# EAGLE library part LM75 (library joakim)
LM75A Temperature sensor
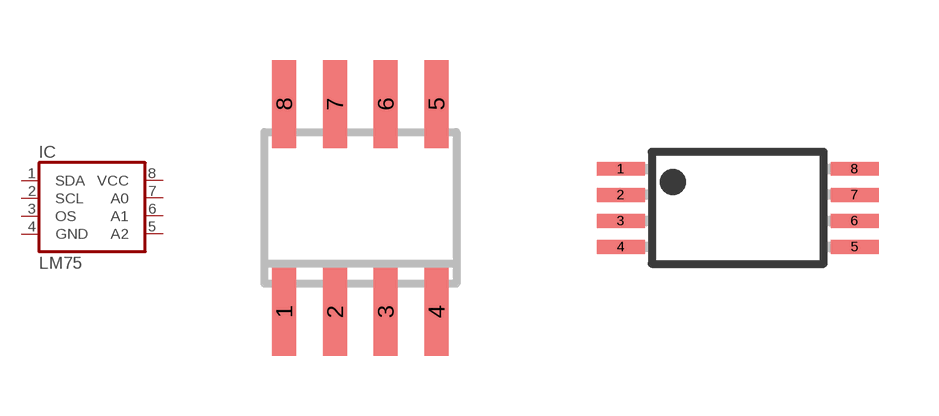
[diagram p79: symbol with the pads of SO08J; footprints SO08J, TSSOP8J]

Designator prefix IC

## LM75D  [SO08J]
1  SDA
2  SCL
3  OS
4  GND  pwr
5  A2
6  A1
7  A0
8  VCC  pwr

## LM75P  [TSSOP8J]
Pads as for SO08J

## Footprint SO08J (pad centres in mm)
Small Outline Package 8 NS Package M08A
smd 0.6 x 2.2: 1 -1.905,-2.6; 2 -0.635,-2.6; 3 0.635,-2.6; 4 1.905,-2.6; 5 1.905,2.6; 6 0.635,2.6; 7 -0.635,2.6; 8 -1.905,2.6

## Footprint TSSOP8J (pad centres in mm)
Plastic Small Outline
smd 1.2 x 0.35: 1 -2.925,0.975; 2 -2.925,0.325; 3 -2.925,-0.325; 4 -2.925,-0.975; 5 2.925,-0.975; 6 2.925,-0.325; 7 2.925,0.325; 8 2.925,0.975